# Altium footprint library SoldeerStation.PcbLib: 35 footprints (part 1 of 3)
Each footprint in its own frame and in the unit in brackets; x right, y up, seen from the top. Pads: shape width x height; smd on the part's side, far side on the other; paste and mask are expansions set on the pad; w line width, h text height; cw(c..) or ccw(c..) is an arc to the next point about the centre after c.
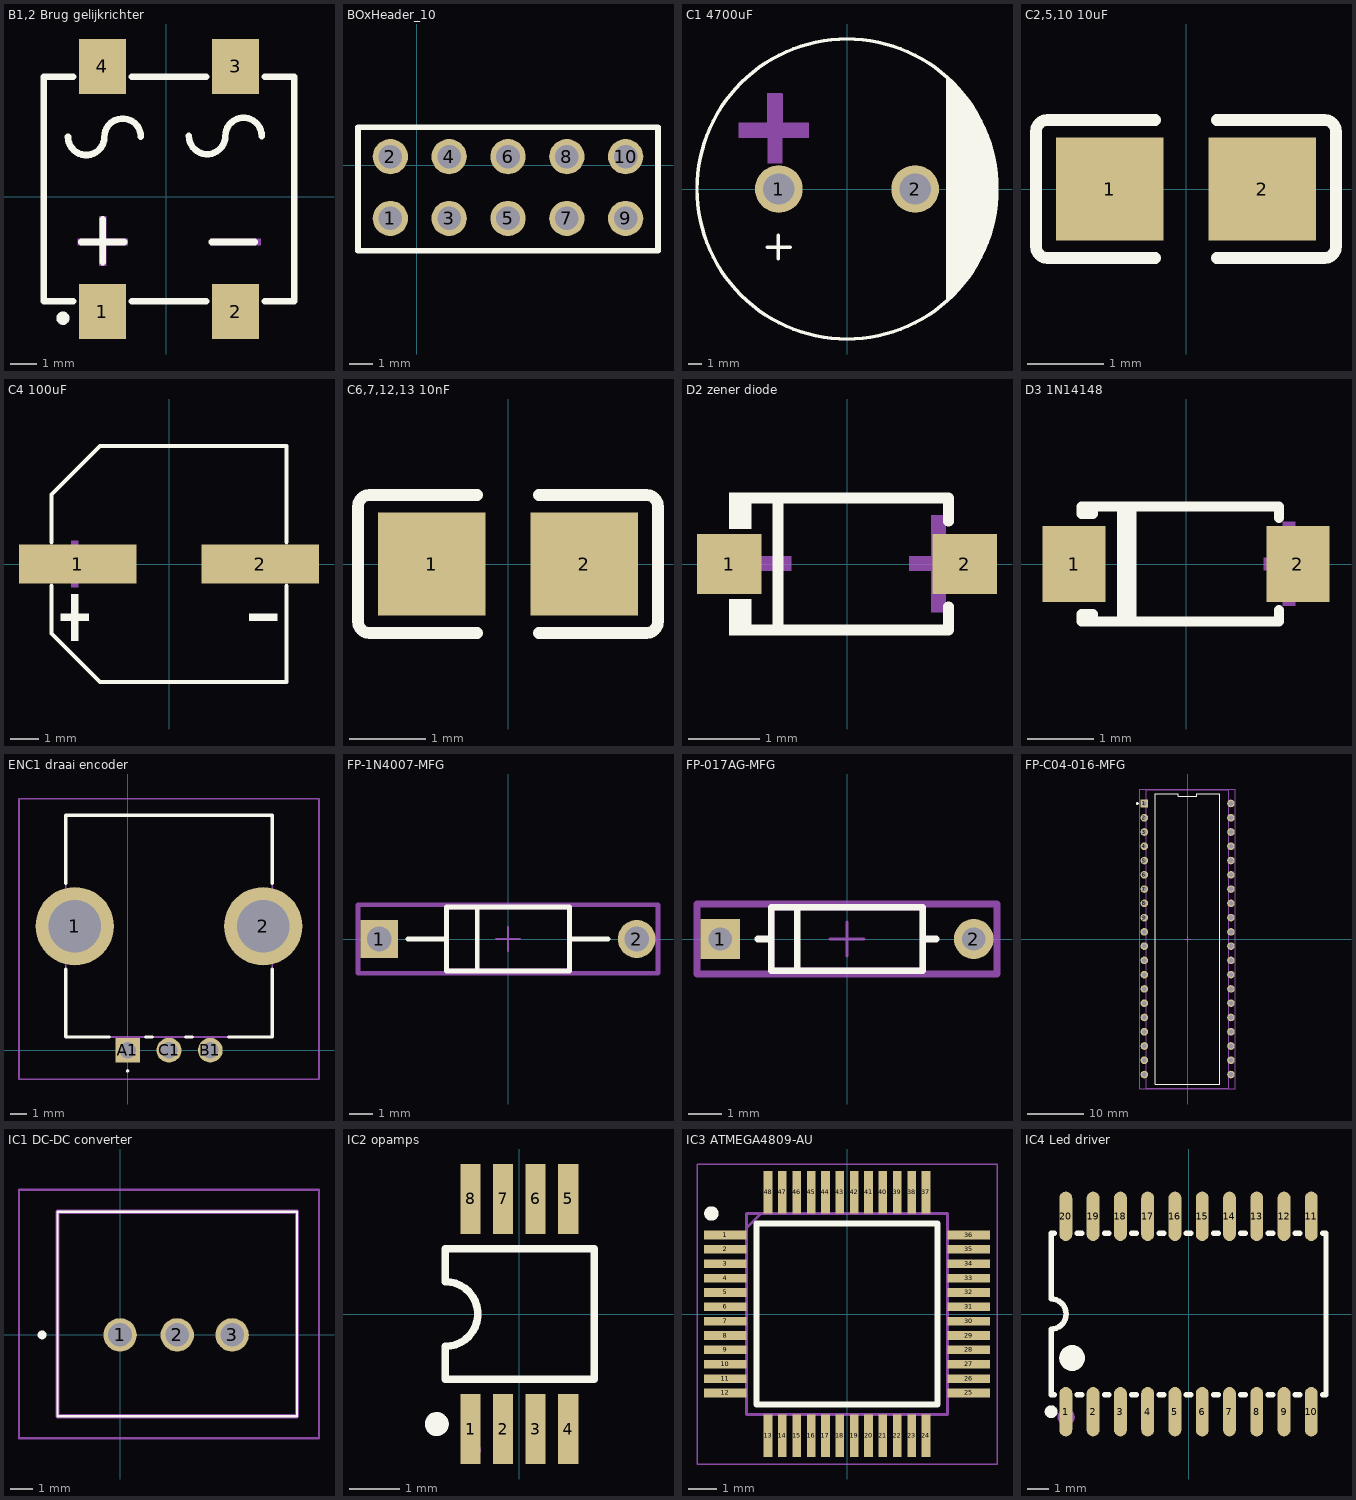
[diagram p0: the footprints below, top view; thin cyan lines are the x and y axes]

## B1,2 Brug gelijkrichter [mm]
pads (4):
  rect 1.8x2.1 smd: 1(-2.449,-4.411) 2(2.651,-4.411) 3(2.651,4.989) 4(-2.449,4.989)
Top Overlay:
  circle w0.254: c-3.963,-4.664 r0.127
  lines w0.254: -3.773,2.289 ccw(c-3.074,2.289) -2.376,2.289 cw(c-1.677,2.289) -0.979,2.289 ; -3.58,-4.011 -4.699,-4.011 -4.699,4.589 -3.58,4.589 ; -3.265,-1.743 -1.614,-1.743 ; -2.439,-2.522 -2.439,-0.871 ; -1.318,-4.011 1.52,-4.011 ; -1.318,4.589 1.52,4.589 ; 0.863,2.321 ccw(c1.561,2.321) 2.26,2.321 cw(c2.958,2.321) 3.657,2.321 ; 1.735,-1.743 3.386,-1.743 ; 3.782,-4.011 4.901,-4.011 4.901,4.589 3.782,4.589
Mechanical 15:
  region: -3.389,-1.611 -1.489,-1.611 -1.489,-1.871 -3.389,-1.871
  region: 1.711,-1.611 3.611,-1.611 3.611,-1.871 1.711,-1.871
  region: -2.569,-2.651 -2.569,-0.751 -2.309,-0.751 -2.309,-2.651

## BOxHeader_10 [mil]
pads (10):
  round 60 hole 40: 1(-45,-90) 2(-45,15) 3(55,-90) 4(55,15) 5(155,-90) 6(155,15) 7(255,-90) 8(255,15) 9(355,-90) 10(355,15)
Top Overlay:
  lines w10: -100,-145 410,-145 410,65 -100,65 -100,-145

## C1 4700uF [mm] "CAP-TH_BD22.0-P10.00-D2.3-FD"
pads (2):
  round 3.5 hole 2.3: 1(-5,0) 2(5,0)
Top Overlay:
  circle w0.254: c0,0 r11
  region: 7.28,8.16 7.28,-8.18 7.754,-7.706 8.006,-7.454 8.478,-6.916 8.912,-6.35 9.309,-5.756 9.667,-5.137 9.983,-4.496 10.256,-3.836 10.486,-3.159 10.671,-2.469 10.81,-1.769 10.903,-1.06 10.95,-0.347 10.95,0.01 10.95,0.361 10.904,1.061 10.812,1.757 10.676,2.445 10.494,3.123 10.268,3.788 10,4.436 9.689,5.066 9.338,5.673 8.949,6.257 8.521,6.814 8.059,7.341 7.81,7.59 7.39,8.01
  lines w0.254: -5.842,-4.267 -4.166,-4.267 ; -5.055,-5.105 -5.055,-3.378
Mechanical 15:
  region: -5.808,1.895 -4.758,1.895 -4.733,1.895 -4.727,6.965 -4.733,7.005 -4.738,7.005 -5.797,7.005 -5.833,7.005
  region: -2.82,3.77 -2.82,4.82 -2.82,4.845 -7.89,4.85 -7.93,4.845 -7.93,4.84 -7.93,3.78 -7.93,3.745

## C2,5,10 10uF [mm] "C0805"
pads (2):
  rect 1.41x1.35 smd: 1(-1,0) 2(1,0)
Top Overlay:
  lines w0.152: -0.401,-0.904 -1.811,-0.904 cw(c-1.811,-0.751) -1.964,-0.751 -1.964,0.751 cw(c-1.811,0.751) -1.811,0.904 -0.401,0.904 ; 0.401,-0.904 1.811,-0.904 ccw(c1.811,-0.751) 1.964,-0.751 1.964,0.751 ccw(c1.811,0.751) 1.811,0.904 0.401,0.904
Top Paste:
  region: -1.675,-0.62 -1.675,0.66 -1.625,0.71 -0.475,0.71 -0.425,0.66 -0.42,0.25 -0.87,0.25 -0.87,-0.2 -0.43,-0.2 -0.425,-0.62 -0.475,-0.67 -1.625,-0.67
  region: 0.475,-0.62 0.475,-0.2 0.92,-0.2 0.92,0.25 0.48,0.25 0.475,0.66 0.525,0.71 1.675,0.71 1.725,0.66 1.725,-0.62 1.675,-0.67 0.525,-0.67

## C4 100uF [mm]
pads (2):
  rect 4.2x1.4 smd: 1(-3.267,0) 2(3.267,0)
Top Overlay:
  region: 3.876,-1.785 3.876,-2.033 2.88,-2.033 2.88,-1.785
  region: -3.876,-1.785 -3.876,-2.033 -2.88,-2.033 -2.88,-1.785
  region: -3.503,-1.079 -3.503,-2.739 -3.254,-2.739 -3.254,-1.079
  lines w0.152: -4.201,-0.782 -4.201,-2.49 -2.465,-4.226 4.201,-4.226 4.201,-0.782 ; -4.201,0.782 -4.201,2.49 -2.465,4.226 4.201,4.226 4.201,0.782
Mechanical 15:
  region: 3.876,0.125 3.876,-0.125 2.88,-0.125 2.88,0.125
  region: -3.876,0.125 -3.876,-0.125 -2.88,-0.125 -2.88,0.125
  region: -3.503,0.83 -3.503,-0.83 -3.254,-0.83 -3.254,0.83

## C6,7,12,13 10nF [mm] "C0805"
pads (2):
  rect 1.41x1.35 smd: 1(-1,0) 2(1,0)
Top Overlay:
  lines w0.152: -0.401,-0.904 -1.811,-0.904 cw(c-1.811,-0.751) -1.964,-0.751 -1.964,0.751 cw(c-1.811,0.751) -1.811,0.904 -0.401,0.904 ; 0.401,-0.904 1.811,-0.904 ccw(c1.811,-0.751) 1.964,-0.751 1.964,0.751 ccw(c1.811,0.751) 1.811,0.904 0.401,0.904
Top Paste:
  region: -1.675,-0.62 -1.675,0.66 -1.625,0.71 -0.475,0.71 -0.425,0.66 -0.42,0.25 -0.87,0.25 -0.87,-0.2 -0.43,-0.2 -0.425,-0.62 -0.475,-0.67 -1.625,-0.67
  region: 0.475,-0.62 0.475,-0.2 0.92,-0.2 0.92,0.25 0.48,0.25 0.475,0.66 0.525,0.71 1.675,0.71 1.725,0.66 1.725,-0.62 1.675,-0.67 0.525,-0.67

## D2 zener diode [mm] "SOD-123_L2.7-W1.7-LS3.8-RD"
pads (2):
  rect 0.91x0.84 smd: 1(-1.655,0) 2(1.655,0)
Top Overlay:
  region: -1.35,-0.496 -1.655,-0.496 -1.655,-1.002 -1.35,-1.002
  region: -1.35,0.496 -1.655,0.496 -1.655,1.002 -1.35,1.002
  lines w0.152: -1.426,-0.926 1.426,-0.926 1.426,-0.6 ; -1.426,0.926 1.426,0.926 1.426,0.6 ; -0.971,-0.926 -0.971,0.926
Mechanical 15:
  region: -1.602,0.107 -1.602,-0.097 -0.786,-0.097 -0.786,0.107
  region: 1.386,0.685 1.386,-0.675 1.182,-0.675 1.182,0.685
  region: 1.692,0.107 1.692,-0.097 0.876,-0.097 0.876,0.107

## D3 1N14148 [mm] "SOD-123_L2.8-W1.8-LS3.7-RD"
pads (2):
  rect 0.95x1.15 smd: 1(-1.693,0) 2(1.693,0)
Top Overlay:
  lines w0.152: -0.97,-0.866 -0.97,0.866 ; -0.827,-0.866 -0.827,0.866 ; 1.406,-0.698 1.406,-0.866 -1.406,-0.866 ; 1.406,0.698 1.406,0.866 -1.406,0.866 ; -1.406,-0.866 -1.406,-0.755 -1.58,-0.755 -1.58,-0.866 -1.406,-0.866 ; -1.406,0.866 -1.406,0.755 -1.58,0.755 -1.58,0.866 -1.406,0.866
Mechanical 15:
  region: 1.651,0.635 1.651,-0.629 1.461,-0.629 1.461,0.635
  region: 1.935,0.098 1.935,-0.092 1.177,-0.092 1.177,0.098
  region: -2.03,0.095 -2.03,-0.095 -1.272,-0.095 -1.272,0.095

## ENC1 draai encoder [mm] "PEC11R4225FN0024"
pads (5):
  round 4.74 hole 3.16: 1(-3.2,7.5) 2(8.2,7.5)
  rect 1.5x1.5 hole 1: A1(0,0)
  round 1.5 hole 1: B1(5,0) C1(2.5,0)
Top Overlay:
  lines w0.1: 0,-1.3 cw(c0,-1.25) 0,-1.2 cw(c0,-1.25) 0,-1.3
  lines w0.2: -3.75,4.9 -3.75,0.8 -1.1,0.8 ; -3.75,10.1 -3.75,14.2 8.75,14.2 8.75,10.1 ; 1.1,0.8 1.5,0.8 ; 3.5,0.8 3.9,0.8 ; 6.1,0.8 8.75,0.8 8.75,4.9
Mechanical 15:
  lines w0.1: -3.75,0.8 8.75,0.8 8.75,14.2 -3.75,14.2 -3.75,0.8
Bottom Assembly:
  lines w0.1: -6.57,-1.75 11.57,-1.75 11.57,15.2 -6.57,15.2 -6.57,-1.75
3D body "PEC11R-4225F-N0024.stp": height 5.8, standoff -4.65, extent -10,-3.376 10,3.376

## FP-1N4007-MFG [mm]
pads (2):
  rect 1.6x1.6 hole 1.05 paste-1000 mask+0: 1(-5.438,0)
  round 1.6 hole 1.05 paste-1000 mask+0: 2(5.438,0)
Top Overlay:
  lines w0.2: -4.238,0 -2.6,0 ; -1.3,-1.28 -1.3,1.28 ; 2.6,0 4.238,0 ; -2.6,-1.35 -2.6,1.35 2.6,1.35 2.6,-1.35 -2.6,-1.35
Top 3D Body:
  lines w0.2: -2.6,-1.35 -2.6,1.35 2.6,1.35 2.6,-1.35 -2.6,-1.35
Top Courtyard:
  lines w0.2: -6.338,-1.45 -6.338,1.45 6.338,1.45 6.338,-1.45 -6.338,-1.45
Top Assembly:
  lines w0.2: -6.338,-1.45 -6.338,1.45 6.338,1.45 6.338,-1.45 -6.338,-1.45
  text ".Designator" at 0,0.188 h1
Top Component Center:
  lines w0.1: -0.5,0 0.5,0 ; 0,-0.5 0,0.5
3D body "Diode_Vishay_1N4007-E3-54_eec.STEP": height 0.25, standoff 0, extent -6.338,-1.45 6.338,1.45

## FP-017AG-MFG [mm]
pads (2):
  rect 1.2x1.2 hole 0.7 paste-1000 mask+0: 1(-3.813,0)
  round 1.2 hole 0.7 paste-1000 mask+0: 2(3.813,0)
Top Overlay:
  lines w0.2: -2.68,0 -2.28,0 ; -1.5,-0.855 -1.5,0.855 ; 2.28,0 2.68,0 ; -2.28,-0.955 2.28,-0.955 2.28,0.955 -2.28,0.955 -2.28,-0.955
Top 3D Body:
  lines w0.2: -2.28,-0.955 2.28,-0.955 2.28,0.955 -2.28,0.955 -2.28,-0.955
Top Courtyard:
  lines w0.2: -4.513,-1.055 4.513,-1.055 4.513,1.055 -4.513,1.055 -4.513,-1.055
Top Assembly:
  lines w0.2: -4.513,-1.055 4.513,-1.055 4.513,1.055 -4.513,1.055 -4.513,-1.055
  text ".Designator" at 0,0.188 h1
Top Component Center:
  lines w0.1: -0.5,0 0.5,0 ; 0,-0.5 0,0.5
3D body "Diode_ON_Semiconductor_1N914B_eec.STEP": height 0.25, standoff 0, extent -4.513,-1.055 4.513,1.055

## FP-C04-016-MFG [mm]
pads (40):
  rect 1.35x1.35 hole 0.85 paste-1000 mask+0: 1(-7.715,24.13)
  round 1.35 hole 0.85 paste-1000 mask+0: 2(-7.715,21.59) 3(-7.715,19.05) 4(-7.715,16.51) 5(-7.715,13.97) 6(-7.715,11.43) 7(-7.715,8.89) 8(-7.715,6.35) 9(-7.715,3.81) 10(-7.715,1.27) 11(-7.715,-1.27) 12(-7.715,-3.81) 13(-7.715,-6.35) 14(-7.715,-8.89) 15(-7.715,-11.43) 16(-7.715,-13.97) 17(-7.715,-16.51) 18(-7.715,-19.05) 19(-7.715,-21.59) 20(-7.715,-24.13) 21(7.715,-24.13) 22(7.715,-21.59) 23(7.715,-19.05) 24(7.715,-16.51) 25(7.715,-13.97) 26(7.715,-11.43) 27(7.715,-8.89) 28(7.715,-6.35) 29(7.715,-3.81) 30(7.715,-1.27) 31(7.715,1.27) 32(7.715,3.81) 33(7.715,6.35) 34(7.715,8.89) 35(7.715,11.43) 36(7.715,13.97) 37(7.715,16.51) 38(7.715,19.05) 39(7.715,21.59) 40(7.715,24.13)
Top Overlay:
  circle w0.25: c-8.94,24.13 r0.125
  lines w0.2: -5.763,-25.876 5.763,-25.876 5.763,25.876 1.646,25.876 1.646,25.376 -1.646,25.376 -1.646,25.876 -5.763,25.876 -5.763,-25.876
Top 3D Body:
  lines w0.2: -7.366,-26.607 -7.366,26.607 7.366,26.607 7.366,-26.607 -7.366,-26.607
Top Courtyard:
  lines w0.2: -8.49,-26.706 -8.49,26.706 8.49,26.706 8.49,-26.706 -8.49,-26.706
Top Assembly:
  lines w0.2: -8.49,-26.706 -8.49,26.706 8.49,26.706 8.49,-26.706 -8.49,-26.706
  text ".Designator" at 0,0.188 h1
Top Component Center:
  lines w0.1: -0.5,0 0.5,0 ; 0,-0.5 0,0.5
3D body "IC_Microchip_Technology_PIC18LF47K40-I-P_eec.STEP": height 0.25, standoff 0, extent -8.49,-26.706 8.49,26.706

## IC1 DC-DC converter [mm] "OKI78SR515W36C"
pads (3):
  round 1.519 hole 1.08: 1(0,0) 2(2.6,0) 3(5.1,0)
Top Overlay:
  lines w0.1: -2.85,-3.7 -2.85,5.6 8.05,5.6 8.05,-3.7 -2.85,-3.7
  lines w0.3: -3.6,0 ccw(c-3.55,0) -3.5,0 ccw(c-3.55,0) -3.6,0
Mechanical 15:
  lines w0.2: -2.85,-3.7 -2.85,5.6 8.05,5.6 8.05,-3.7 -2.85,-3.7
Bottom Assembly:
  lines w0.1: -4.6,-4.7 -4.6,6.6 9.05,6.6 9.05,-4.7 -4.6,-4.7
3D body "OKI-78SR-5_1.5-W36-C.stp": height 5.8, standoff -4.65, extent -10,-3.376 10,3.376

## IC2 opamps [mil] "MSOP-8_L3.0-W3.0-P0.65-LS4.9-BL MCP6002-E/MS"
pads (8):
  rect 15.98x55 smd: 1(-38.39,-90.56) 2(-12.8,-90.56) 3(12.8,-90.55) 4(38.39,-90.55) 5(38.39,90.56) 6(12.8,90.56) 7(-12.8,90.55) 8(-38.39,90.55)
Top Overlay:
  circle w9.45: c-64.96,-86.61 r4.72
  lines w5.91: -58.2,-51.18 59.05,-51.18 59.05,51.18 -58.2,51.18 -58.2,25.5 cw(c-58.2,0) -58.21,-25.5 -58.2,-51.18
Mechanical 15:
  circle w7.87: c-38.19,-107.09 r3.94

## IC3 ATMEGA4809-AU [mm] "QFP50P900X900X120-48N"
pads (48):
  rect 1.475x0.3 smd: 1(-4.238,2.75) 2(-4.238,2.25) 3(-4.238,1.75) 4(-4.238,1.25) 5(-4.238,0.75) 6(-4.238,0.25) 7(-4.238,-0.25) 8(-4.238,-0.75) 9(-4.238,-1.25) 10(-4.238,-1.75) 11(-4.238,-2.25) 12(-4.238,-2.75) 25(4.238,-2.75) 26(4.238,-2.25) 27(4.238,-1.75) 28(4.238,-1.25) 29(4.238,-0.75) 30(4.238,-0.25) 31(4.238,0.25) 32(4.238,0.75) 33(4.238,1.25) 34(4.238,1.75) 35(4.238,2.25) 36(4.238,2.75)
  rect 0.3x1.475 smd: 13(-2.75,-4.238) 14(-2.25,-4.238) 15(-1.75,-4.238) 16(-1.25,-4.238) 17(-0.75,-4.238) 18(-0.25,-4.238) 19(0.25,-4.238) 20(0.75,-4.238) 21(1.25,-4.238) 22(1.75,-4.238) 23(2.25,-4.238) 24(2.75,-4.238) 37(2.75,4.238) 38(2.25,4.238) 39(1.75,4.238) 40(1.25,4.238) 41(0.75,4.238) 42(0.25,4.238) 43(-0.25,4.238) 44(-0.75,4.238) 45(-1.25,4.238) 46(-1.75,4.238) 47(-2.25,4.238) 48(-2.75,4.238)
Top Overlay:
  circle w0.25: c-4.725,3.5 r0.125
  lines w0.2: -3.15,-3.15 3.15,-3.15 3.15,3.15 -3.15,3.15 -3.15,-3.15
Mechanical 15:
  lines w0.1: -3.5,3 -3,3.5 ; -3.5,-3.5 3.5,-3.5 3.5,3.5 -3.5,3.5 -3.5,-3.5
Bottom Assembly:
  lines w0.05: -5.225,-5.225 5.225,-5.225 5.225,5.225 -5.225,5.225 -5.225,-5.225
3D body "ATMEGA4809-AU.stp": height 5.8, standoff -4.65, extent -10,-3.376 10,3.376

## IC4 Led driver [mm] "SOP-20_L12.8-W7.5-P1.27-LS10.4-BL"
pads (20):
  oval 0.6x2.3 smd: 1(-5.715,-4.55) 2(-4.445,-4.55) 3(-3.175,-4.55) 4(-1.905,-4.55) 5(-0.635,-4.55) 6(0.635,-4.55) 7(1.905,-4.55) 8(3.175,-4.55) 9(4.445,-4.55) 10(5.715,-4.55) 11(5.715,4.55) 12(4.445,4.55) 13(3.175,4.55) 14(1.905,4.55) 15(0.635,4.55) 16(-0.635,4.55) 17(-1.905,4.55) 18(-3.175,4.55) 19(-4.445,4.55) 20(-5.715,4.55)
Top Overlay:
  lines w0.254: -6.401,-0.701 ccw(c-6.405,-0.001) -6.4,0.7 -6.4,3.75 -6.246,3.75 ; -6.4,-0.7 -6.4,-3.75 -6.246,-3.75 ; -5.184,-3.75 -4.976,-3.75 ; -5.184,3.75 -4.976,3.75 ; -3.914,-3.75 -3.706,-3.75 ; -3.914,3.75 -3.706,3.75 ; -2.644,-3.75 -2.436,-3.75 ; -2.644,3.75 -2.436,3.75 ; -1.374,-3.75 -1.166,-3.75 ; -1.374,3.75 -1.166,3.75 ; -0.104,-3.75 0.104,-3.75 ; -0.104,3.75 0.104,3.75 ; 1.166,-3.75 1.374,-3.75 ; 1.166,3.75 1.374,3.75 ; 2.436,-3.75 2.644,-3.75 ; 2.436,3.75 2.644,3.75 ; 3.706,-3.75 3.914,-3.75 ; 3.706,3.75 3.914,3.75 ; 4.976,-3.75 5.184,-3.75 ; 4.976,3.75 5.184,3.75 ; 6.246,-3.75 6.4,-3.75 6.4,3.75 6.246,3.75
  lines w0.3: -6.4,-4.4 ccw(c-6.399,-4.55) -6.397,-4.4
  lines w0.6: -5.425,-1.75 ccw(c-5.423,-2.05) -5.42,-1.75
Mechanical 15:
  circle w0.4: c-5.7,-4.8 r0.2